# Altium schematic symbol library UU9.8Y-10MH.SchLib: 1 symbol
Pins are listed as number, name and electrical type; pins without a type are passive.

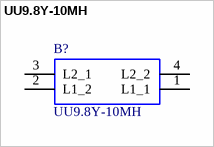
[diagram p0: symbol UU9.8Y-10MH]

## UU9.8Y-10MH
designator B?
Common Mode Chokes / Filters Power Line 10mH @ 1kHz 500mA Through Hole RoHS; Manufacturer_Name: Guangdong Fenghua Advanced Tech; Geometry.Height: 14mm; Manufacturer_Part_Number: UU9.8Y-10MH; Mouser Part Number: *; Mouser Price/Stock: *; Arrow Part Number: *; Arrow Price/Stock: *; Mouser Testing Part Number: *; Mouser Testing Price/Stock: *; Datasheet Link: https://datasheet.lcsc.com/szlcsc/Guangdong-Fenghua-Advanced-Tech-UU9-8Y-10mH_C75192.pdf
footprint UU98Y10MH
pins: 1 L1_1, 2 L1_2, 3 L2_1, 4 L2_2